# Altium schematic symbol library lastyearbutton.SchLib: 1 symbol
Pins are listed as number, name and electrical type; pins without a type are passive.

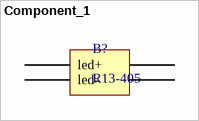
[diagram p0: symbol Component_1]

## Component_1
designator B?, comment R13-405
footprint PCBComponent_1
pins: 1 led+, 2 led-, 3, 4